# EAGLE library part ME_MAX_22_5_2-2_BLOCKS (library ME_MAX 22p5 2-2)
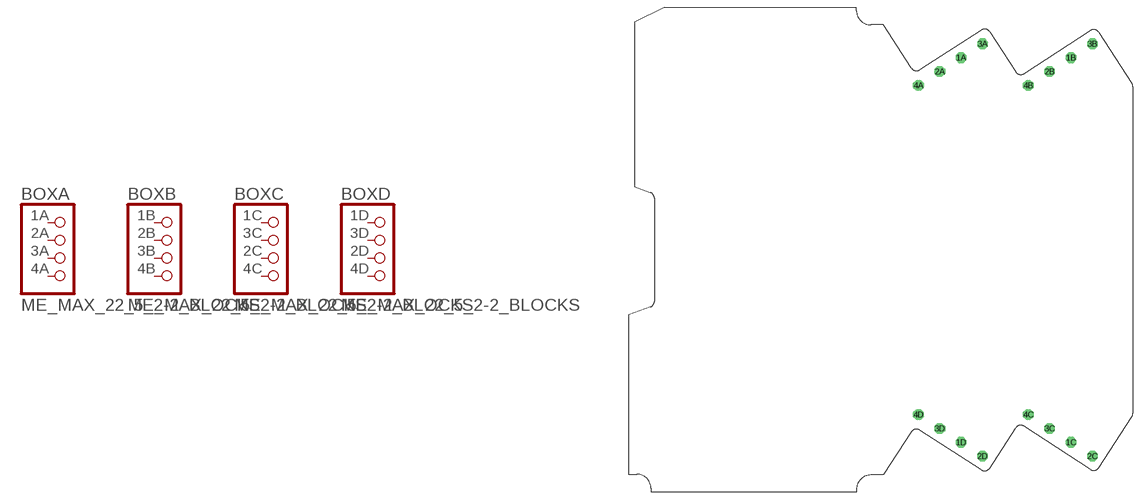
[diagram p0: symbol with the pads of ME_MAX_22_5_2-2; footprint ME_MAX_22_5_2-2]

Designator prefix BOX; gates A=PINHD4 B=PINHD4 C=PINHD4 D=PINHD4

## ME_MAX_22_5_2-2_BLOCKS  [ME_MAX_22_5_2-2]
1A  A:1  pas
1B  B:1  pas
1C  C:1  pas
1D  D:1  pas
2A  A:2  pas
2B  B:2  pas
2C  C:3  pas
2D  D:3  pas
3A  A:3  pas
3B  B:3  pas
3C  C:2  pas
3D  D:2  pas
4A  A:4  pas
4B  B:4  pas
4C  C:4  pas
4D  D:4  pas

## Footprint ME_MAX_22_5_2-2 (pad centres in mm)
PCB footprint for the Phoenix Contact ME-MAX 22_5 box.
drill 1.4 octagon: 1A 65.323,85.376; 1B 86.9,85.376; 1C 86.9,9.824; 1D 65.323,9.824; 2A 61.13,82.653; 2B 82.706,82.653; 2C 91.093,7.101; 2D 69.517,7.101; 3A 69.517,88.099; 3B 91.093,88.099; 3C 82.706,12.547; 3D 61.13,12.547; 4A 56.937,79.93; 4B 78.513,79.93; 4C 78.513,15.27; 4D 56.937,15.27